# EAGLE library part SSD1906 (library mylib)
256K Embedded Display SRAM LCD Graphic Controller
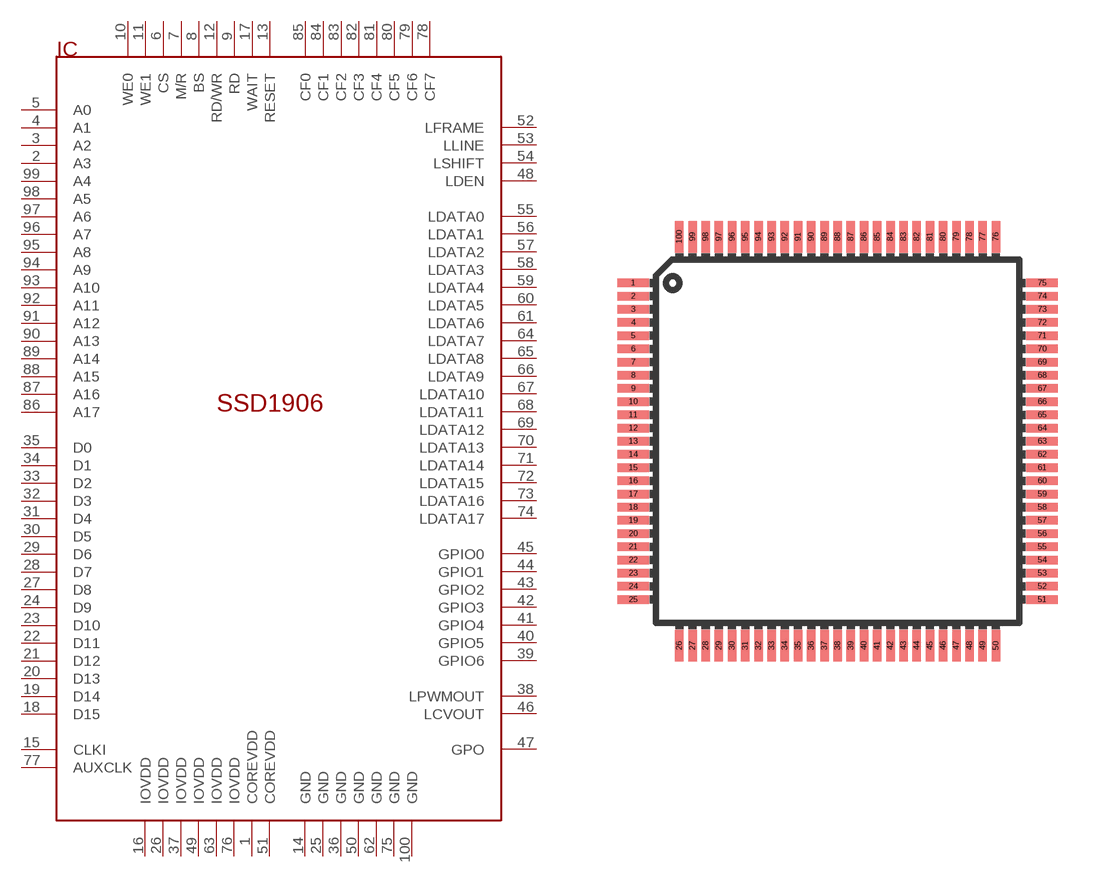
[diagram p4: symbol with the pads of TQFP100; footprint TQFP100]

Designator prefix IC

## SSD1906  [TQFP100]
1  COREVDD  pwr
2  A3
3  A2
4  A1
5  A0
6  CS
7  M/R
8  BS
9  RD
10  WE0
11  WE1
12  RD/WR
13  RESET
14  GND  pwr
15  CLKI
16  IOVDD  pwr
17  WAIT
18  D15
19  D14
20  D13
21  D12
22  D11
23  D10
24  D9
25  GND  pwr
26  IOVDD  pwr
27  D8
28  D7
29  D6
30  D5
31  D4
32  D3
33  D2
34  D1
35  D0
36  GND  pwr
37  IOVDD  pwr
38  LPWMOUT
39  GPIO6
40  GPIO5
41  GPIO4
42  GPIO3
43  GPIO2
44  GPIO1
45  GPIO0
46  LCVOUT
47  GPO
48  LDEN
49  IOVDD  pwr
50  GND  pwr
51  COREVDD  pwr
52  LFRAME
53  LLINE
54  LSHIFT
55  LDATA0
56  LDATA1
57  LDATA2
58  LDATA3
59  LDATA4
60  LDATA5
61  LDATA6
62  GND  pwr
63  IOVDD  pwr
64  LDATA7
65  LDATA8
66  LDATA9
67  LDATA10
68  LDATA11
69  LDATA12
70  LDATA13
71  LDATA14
72  LDATA15
73  LDATA16
74  LDATA17
75  GND  pwr
76  IOVDD  pwr
77  AUXCLK
78  CF7
79  CF6
80  CF5
81  CF4
82  CF3
83  CF2
84  CF1
85  CF0
86  A17
87  A16
88  A15
89  A14
90  A13
91  A12
92  A11
93  A10
94  A9
95  A8
96  A7
97  A6
98  A5
99  A4
100  GND  pwr

## Footprint TQFP100 (pad centres in mm)
smd 1.2 x 0.32: 1 -1.4,12.35; 2 -1.4,11.85; 3 -1.4,11.35; 4 -1.4,10.85; 5 -1.4,10.35; 6 -1.4,9.85; 7 -1.4,9.35; 8 -1.4,8.85; 9 -1.4,8.35; 10 -1.4,7.85; 11 -1.4,7.35; 12 -1.4,6.85; 13 -1.4,6.35; 14 -1.4,5.85; 15 -1.4,5.35; 16 -1.4,4.85; 17 -1.4,4.35; 18 -1.4,3.85; 19 -1.4,3.35; 20 -1.4,2.85; 21 -1.4,2.35; 22 -1.4,1.85; 23 -1.4,1.35; 24 -1.4,0.85; 25 -1.4,0.35; 51 14.1,0.35; 52 14.1,0.85; 53 14.1,1.35; 54 14.1,1.85; 55 14.1,2.35; 56 14.1,2.85; 57 14.1,3.35; 58 14.1,3.85; 59 14.1,4.35; 60 14.1,4.85; 61 14.1,5.35; 62 14.1,5.85; 63 14.1,6.35; 64 14.1,6.85; 65 14.1,7.35; 66 14.1,7.85; 67 14.1,8.35; 68 14.1,8.85; 69 14.1,9.35; 70 14.1,9.85; 71 14.1,10.35; 72 14.1,10.85; 73 14.1,11.35; 74 14.1,11.85; 75 14.1,12.35
smd 0.32 x 1.2: 26 0.35,-1.4; 27 0.85,-1.4; 28 1.35,-1.4; 29 1.85,-1.4; 30 2.35,-1.4; 31 2.85,-1.4; 32 3.35,-1.4; 33 3.85,-1.4; 34 4.35,-1.4; 35 4.85,-1.4; 36 5.35,-1.4; 37 5.85,-1.4; 38 6.35,-1.4; 39 6.85,-1.4; 40 7.35,-1.4; 41 7.85,-1.4; 42 8.35,-1.4; 43 8.85,-1.4; 44 9.35,-1.4; 45 9.85,-1.4; 46 10.35,-1.4; 47 10.85,-1.4; 48 11.35,-1.4; 49 11.85,-1.4; 50 12.35,-1.4; 76 12.35,14.1; 77 11.85,14.1; 78 11.35,14.1; 79 10.85,14.1; 80 10.35,14.1; 81 9.85,14.1; 82 9.35,14.1; 83 8.85,14.1; 84 8.35,14.1; 85 7.85,14.1; 86 7.35,14.1; 87 6.85,14.1; 88 6.35,14.1; 89 5.85,14.1; 90 5.35,14.1; 91 4.85,14.1; 92 4.35,14.1; 93 3.85,14.1; 94 3.35,14.1; 95 2.85,14.1; 96 2.35,14.1; 97 1.85,14.1; 98 1.35,14.1; 99 0.85,14.1; 100 0.35,14.1